# Altium schematic symbol library CN HDR 3POS JST ZH.SchLib: 1 symbol
Pins are listed as number, name and electrical type; pins without a type are passive.

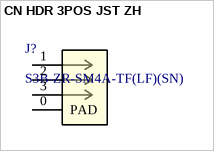
[diagram p0: symbol CN HDR 3POS JST ZH]

## CN HDR 3POS JST ZH
designator J?, comment S3B-ZR-SM4A-TF(LF)(SN)
CONN HEADER SMD R/A 3POS 1.5MM; Mfr_Name: JST; Copyright: Copyright (C) 2023 Ultra Librarian. All rights reserved.; Manufacturer_Part_Number: S3B-ZR-SM4A-TF(LF)(SN); Digi-Key_Part_Number_1: 455-1694-2-ND; Digi-Key_Part_Number_2: 455-1694-1-ND; Digi-Key_Part_Number_3: 455-1694-6-ND; RefDes: RefDes; Type: DEV
footprint CONN_S3B-ZR-SM4A-TF(LF)(SN)_JST
pins: 0 PAD, 1, 2, 3